# EAGLE library part W25XXC (library USB2.0-TYPE-C)
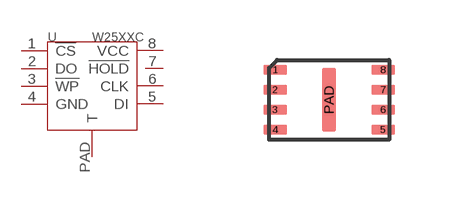
[diagram p0: symbol with the pads of USON2X3_8; footprint USON2X3_8]

Designator prefix U

## W25XXC  [USON2X3_8]
1  !CS
2  DO
3  !WP
4  GND
5  DI
6  CLK
7  !HOLD
8  VCC
PAD  T

## Footprint USON2X3_8 (pad centres in mm)
smd 0.6 x 0.26: 1 -1.35,0.75; 2 -1.35,0.25; 3 -1.35,-0.25; 4 -1.35,-0.75; 5 1.35,-0.75; 6 1.35,-0.25; 7 1.35,0.25; 8 1.35,0.75
smd 0.35 x 1.6: PAD 0,0